# Altium footprint library FFC3B07-10-T.PcbLib: 1 footprints
Each footprint in its own frame and in the unit in brackets; x right, y up, seen from the top. Pads: shape width x height; smd on the part's side, far side on the other; paste and mask are expansions set on the pad; w line width, h text height; cw(c..) or ccw(c..) is an arc to the next point about the centre after c.
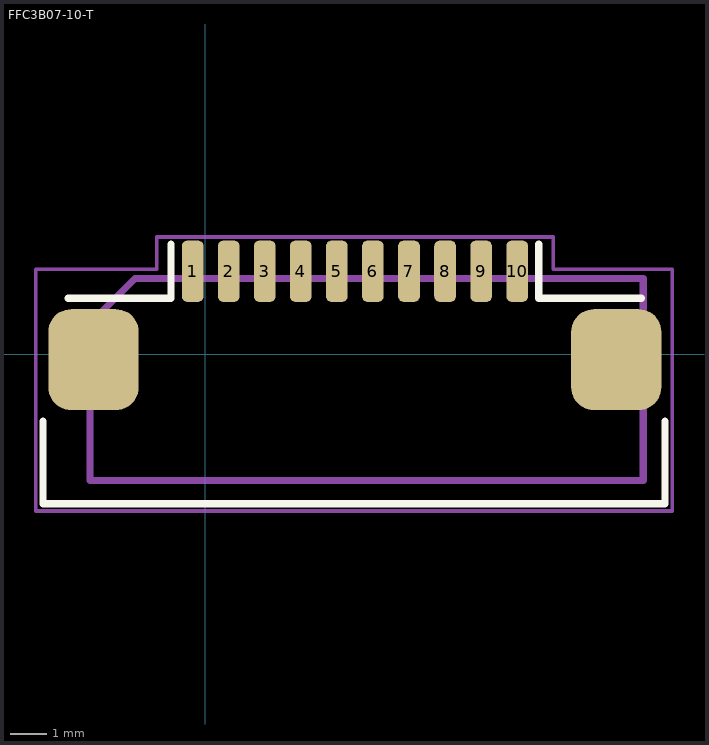
[diagram p0: the footprint, top view; thin cyan lines are the x and y axes]

## FFC3B07-10-T [mm]
pads (12):
  rrect50% 0.6x1.7 smd mask+0: 1(-0.35,2.3) 2(0.65,2.3) 3(1.65,2.3) 4(2.65,2.3) 5(3.65,2.3) 6(4.65,2.3) 7(5.65,2.3) 8(6.65,2.3) 9(7.65,2.3) 10(8.65,2.3)
  rrect50% 2.5x2.8 smd mask+0: ""(-3.1,-0.15) ""(11.4,-0.15)
Top Overlay:
  lines w0.2: -4.5,-1.85 -4.5,-4.15 12.75,-4.15 12.75,-1.85 ; -3.8,1.55 -0.95,1.55 -0.95,3.05 ; 9.25,3.05 9.25,1.55 12.1,1.55
Mechanical 3:
  lines w0.2: -3.2,-3.5 12.15,-3.5 12.15,2.1 -1.95,2.1 -3.2,0.85 -3.2,-3.45
Mechanical 7:
  lines w0.1: -4.7,-4.35 -4.7,2.35 -1.35,2.35 -1.35,3.25 9.65,3.25 9.65,2.35 12.95,2.35 12.95,-4.35 3.5,-4.35 -4.7,-4.35
Mechanical 9:
  text ".Designator" at -6.197,-2.9 h2
3D body "FFC3B07-10-T.stp": height 2.58, standoff 0.01, extent -4.375,-4.037 12.625,2.713
3D body: height 2.5, standoff 0, extent -4.7,-4.35 12.95,3.25